# EAGLE library part AK130/09 (library PTR_AK130)
ANSCHLUSSKLEMME AK130 (9POLIG)
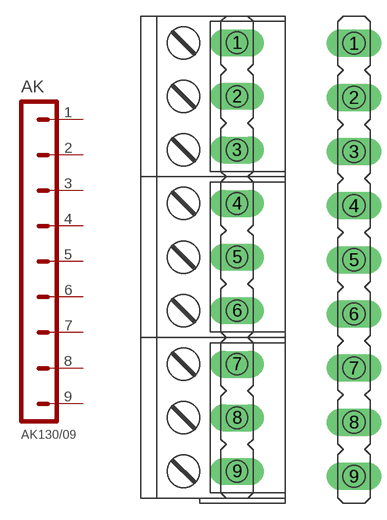
[diagram p3: symbol with the pads of AK09; footprints AK09, STL09]

Designator prefix AK

## AK130/09  [AK09]
1  P$1
2  P$2
3  P$3
4  P$4
5  P$5
6  P$6
7  P$7
8  P$8
9  P$9

## AK130/09_STL  [STL09]
Pads as for AK09

## Footprint AK09 (pad centres in mm)
AK130 (9POLIG) 3x AK130/3-5.0-GRAU STL130/24-5.0-V-SCHWARZ
drill 1.5 pad 2.54 long: 1 0,20; 2 0,15; 3 0,10; 4 0,5; 5 0,0; 6 0,-5; 7 0,-10; 8 0,-15; 9 0,-20

## Footprint STL09 (pad centres in mm)
STL130 (9POLIG) STL130/24-5.0-V-SCHWARZ
drill 1.5 pad 2.54 long: 1 0,20; 2 0,15; 3 0,10; 4 0,5; 5 0,0; 6 0,-5; 7 0,-10; 8 0,-15; 9 0,-20